# Altium footprint library RCG080510R0FKEA.PcbLib: 3 footprints
Each footprint in its own frame and in the unit in brackets; x right, y up, seen from the top. Pads: shape width x height; smd on the part's side, far side on the other; paste and mask are expansions set on the pad; w line width, h text height; cw(c..) or ccw(c..) is an arc to the next point about the centre after c.
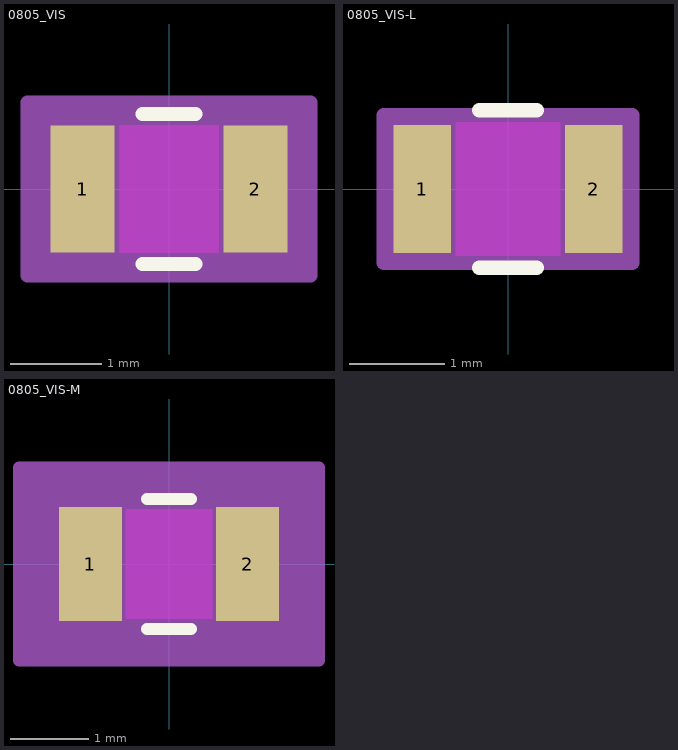
[diagram p0: the footprints below, top view; thin cyan lines are the x and y axes]

## 0805_VIS [mm]
pads (2):
  rect 0.703x1.4 smd paste+0 mask+0: 1(-0.952,0) 2(0.952,0)
Top Layer keep-out:
  region: -0.549,-0.649 -0.549,0.649 0.549,0.649 0.549,-0.649
Top Overlay:
  lines w0.152: -0.292,-0.827 0.292,-0.827 ; -0.292,0.827 0.292,0.827
Keep-Out Layer:
  region: -0.549,-0.7 -0.549,0.7 0.549,0.7 0.549,-0.7
Mechanical 13:
  lines w0.025: -1.1,-0.7 -1.1,0.7 ; -1.1,-0.7 -0.6,-0.7 -0.6,0.7 -1.1,0.7 ; -1.1,-0.7 1.1,-0.7 ; -1.1,-0.7 -1.1,0.7 ; -1.1,0.7 1.1,0.7 ; 1.1,-0.7 0.6,-0.7 0.6,0.7 1.1,0.7 ; 1.1,-0.7 1.1,0.7 ; 1.1,-0.7 1.1,0.7
Mechanical 15:
  region: 1.557,-0.954 -1.557,-0.954 -1.557,0.954 1.557,0.954
  lines w0.152: -1.557,-0.954 -1.557,0.954 1.557,0.954 1.557,-0.954 -1.557,-0.954
3D body "0805_VIS.step": height 0.84, standoff 0, extent -1.1,-0.7 1.1,0.7

## 0805_VIS-L [mm]
pads (2):
  rect 0.602x1.349 smd paste+0 mask+0: 1(-0.901,0) 2(0.901,0)
Top Layer keep-out:
  region: -0.549,-0.649 -0.549,0.649 0.549,0.649 0.549,-0.649
Top Overlay:
  lines w0.152: -0.304,-0.827 0.304,-0.827 ; -0.304,0.827 0.304,0.827
Keep-Out Layer:
  region: -0.549,-0.7 -0.549,0.7 0.549,0.7 0.549,-0.7
Mechanical 13:
  lines w0.025: -1.1,-0.7 -1.1,0.7 ; -1.1,-0.7 -0.6,-0.7 -0.6,0.7 -1.1,0.7 ; -1.1,-0.7 1.1,-0.7 ; -1.1,-0.7 -1.1,0.7 ; -1.1,0.7 1.1,0.7 ; 1.1,-0.7 0.6,-0.7 0.6,0.7 1.1,0.7 ; 1.1,-0.7 1.1,0.7 ; 1.1,-0.7 1.1,0.7
Mechanical 15:
  region: 1.303,-0.776 -1.303,-0.776 -1.303,0.776 1.303,0.776
  lines w0.152: -1.303,-0.776 -1.303,0.776 1.303,0.776 1.303,-0.776 -1.303,-0.776
3D body "0805_VIS.step": height 0.84, standoff 0, extent -1.1,-0.7 1.1,0.7

## 0805_VIS-M [mm]
pads (2):
  rect 0.805x1.451 smd paste+0 mask+0: 1(-1.002,0) 2(1.002,0)
Top Layer keep-out:
  region: -0.549,-0.649 -0.549,0.649 0.549,0.649 0.549,-0.649
Top Overlay:
  lines w0.152: -0.283,-0.827 0.283,-0.827 ; -0.283,0.827 0.283,0.827
Keep-Out Layer:
  region: -0.549,-0.7 -0.549,0.7 0.549,0.7 0.549,-0.7
Mechanical 13:
  lines w0.025: -1.1,-0.7 -1.1,0.7 ; -1.1,-0.7 -0.6,-0.7 -0.6,0.7 -1.1,0.7 ; -1.1,-0.7 1.1,-0.7 ; -1.1,-0.7 -1.1,0.7 ; -1.1,0.7 1.1,0.7 ; 1.1,-0.7 0.6,-0.7 0.6,0.7 1.1,0.7 ; 1.1,-0.7 1.1,0.7 ; 1.1,-0.7 1.1,0.7
Mechanical 15:
  region: 1.913,-1.233 -1.913,-1.233 -1.913,1.233 1.913,1.233
  lines w0.152: -1.913,-1.233 -1.913,1.233 1.913,1.233 1.913,-1.233 -1.913,-1.233
3D body "0805_VIS.step": height 0.84, standoff 0, extent -1.1,-0.7 1.1,0.7